# EAGLE library part ENBW-STROMSENSOR_TPS61025 (library Stromsensor 1_0)
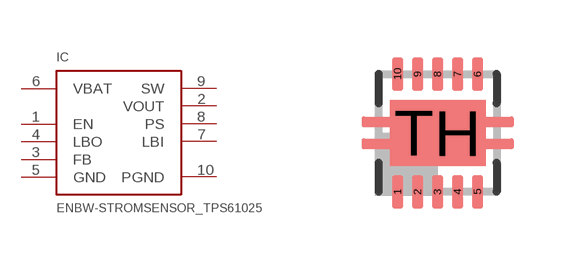
[diagram p1: symbol with the pads of ENBW-STROMSENSOR_DRC-S-PVSON-N10; footprint ENBW-STROMSENSOR_DRC-S-PVSON-N10]

Designator prefix IC

## ENBW-STROMSENSOR_TPS61025  [ENBW-STROMSENSOR_DRC-S-PVSON-N10]
1  EN
2  VOUT
3  FB
4  LBO
5  GND
6  VBAT
7  LBI
8  PS
9  SW
10  PGND

## Footprint ENBW-STROMSENSOR_DRC-S-PVSON-N10 (pad centres in mm)
DRK (S-PDSO-N10) Source: www.ti.com .. bq27010.pdf changed 2011-11-09
smd 0.28 x 0.85: 1 -1,-1.475; 2 -0.5,-1.475; 3 0,-1.475; 4 0.5,-1.475; 5 1,-1.475; 6 1,1.475; 7 0.5,1.475; 8 0,1.475; 9 -0.5,1.475; 10 -1,1.475
smd 2.4 x 1.65: TH 0,0